# Altium footprint library 水下机器人电调控制板2020.PcbLib: 54 footprints (part 2 of 4)
Each footprint in its own frame and in the unit in brackets; x right, y up, seen from the top. Pads: shape width x height; smd on the part's side, far side on the other; paste and mask are expansions set on the pad; w line width, h text height; cw(c..) or ccw(c..) is an arc to the next point about the centre after c.
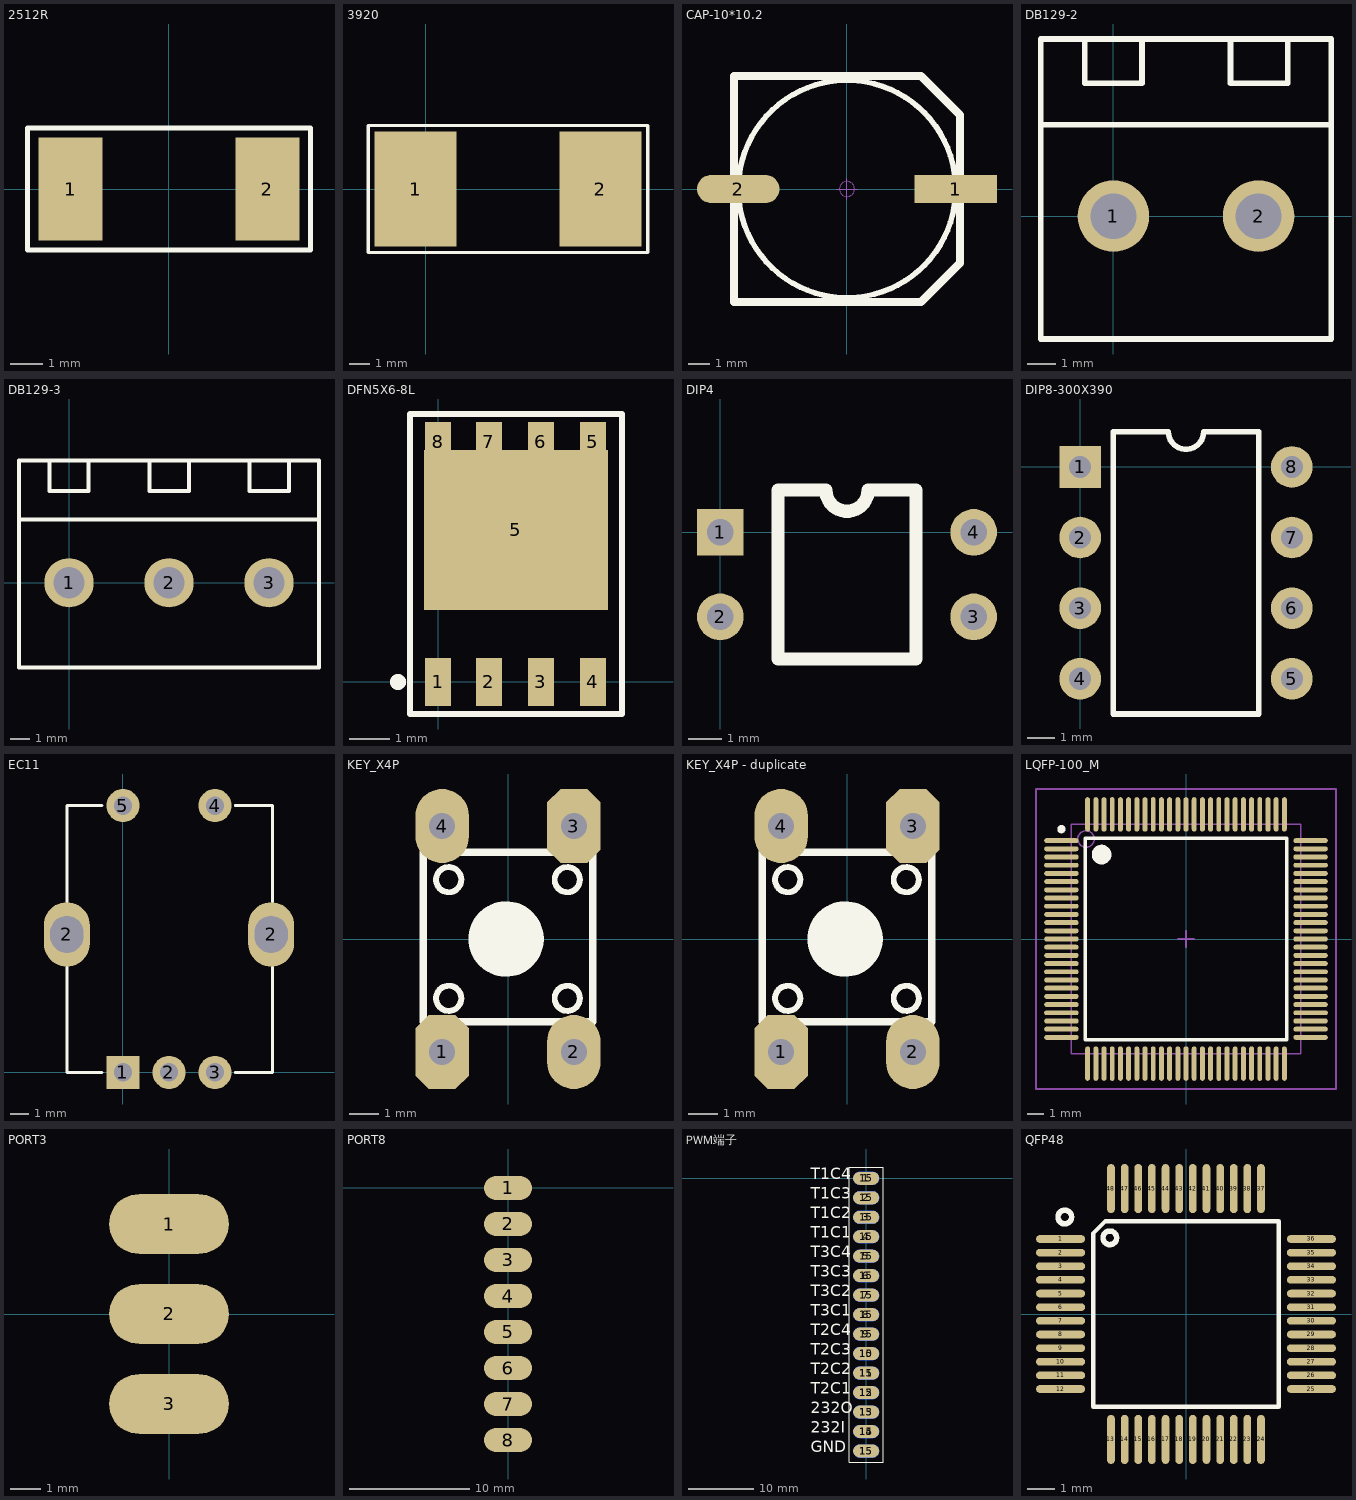
[diagram p1: the footprints below, top view; thin cyan lines are the x and y axes]

## 2512R [mm]
pads (2):
  rect 2x3.2 smd: 1(-3.06,0) 2(3.06,0)
Top Overlay:
  lines w0.15: -4.4,-1.9 -4.4,1.9 4.4,1.9 4.4,-1.9 -4.4,-1.9

## 3920 [mm]
pads (2):
  rect 4x5.6 smd mask+0.1: 1(-0.5,0) 2(8.5,0)
Top Overlay:
  lines w0.15: -2.8,-3.1 10.8,-3.1 10.8,3.1 -2.8,3.1 -2.8,-3.1

## CAP-10*10.2 [mm] "贴片电解电容，10*10.5"
pads (2):
  rect 3.8x1.3 smd: 1(5,0)
  oval 3.8x1.3 smd: 2(-5,0)
Top Overlay:
  circle w0.254: c0,0 r5
  lines w0.381: 5.191,-3.413 3.404,-5.2 -5.2,-5.2 -5.2,5.2 3.404,5.2 5.2,3.404 5.2,-3.404
Mechanical 15:
  circle w0.05: c0,0 r0.35
  lines w0.05: -0.5,0 0.5,0 ; 0,-0.5 0,0.5

## DB129-2 [mm]
pads (2):
  round 2.5 hole 1.6 mask+0.1: 1(0,0) 2(5.08,0)
Top Overlay:
  lines w0.2: -2.54,3.2 7.62,3.2 ; -1,6.15 -1,4.65 1,4.65 1,6.15 ; 4.1,6.15 4.1,4.65 6.1,4.65 6.1,6.15 ; -2.54,-4.3 7.62,-4.3 7.62,6.2 -2.54,6.2 -2.54,-4.3

## DB129-3 [mm]
pads (3):
  round 2.5 hole 1.6 mask+0.1: 1(0,0) 2(5.08,0) 3(10.16,0)
Top Overlay:
  lines w0.2: -2.54,3.2 12.7,3.2 ; -1,6.15 -1,4.65 1,4.65 1,6.15 ; 4.1,6.15 4.1,4.65 6.1,4.65 6.1,6.15 ; 9.18,6.15 9.18,4.65 11.18,4.65 11.18,6.15 ; -2.54,-4.3 12.7,-4.3 12.7,6.2 -2.54,6.2 -2.54,-4.3

## DFN5X6-8L [mm]
pads (9):
  rect 0.65x1.2 smd mask+0: 1(0,0) 2(1.27,0) 3(2.57,0) 4(3.87,0)
  rect 4.6x4 smd mask+0: 5(1.95,3.8)
  rect 0.65x1 smd mask+0: 5(3.87,6) 6(2.57,6) 7(1.27,6) 8(0,6)
Top Overlay:
  circle w0.2: c-1,0 r0.1
  lines w0.15: -0.7,-0.8 4.6,-0.8 4.6,6.7 -0.7,6.7 -0.7,-0.8

## DIP4 [mm]
pads (4):
  rect 1.4x1.4 hole 0.8: 1(0,0)
  round 1.4 hole 0.8: 2(0,-2.54) 3(7.62,-2.54) 4(7.62,0)
Top Overlay:
  lines w0.4: 1.735,-3.81 1.735,1.27 3.175,1.27 ccw(c3.81,1.27) 4.445,1.27 5.885,1.27 5.885,-3.81 1.735,-3.81

## DIP8-300X390 [mm]
pads (8):
  rect 1.5x1.5 hole 0.8: 1(0,0)
  round 1.5 hole 0.8: 2(0,-2.54) 3(0,-5.08) 4(0,-7.62) 5(7.62,-7.62) 6(7.62,-5.08) 7(7.62,-2.54) 8(7.62,0)
Top Overlay:
  lines w0.2: 1.185,-8.89 1.185,1.27 3.175,1.27 ccw(c3.81,1.27) 4.445,1.27 6.435,1.27 6.435,-8.89 1.185,-8.89

## EC11 [mm]
pads (7):
  rect 1.8x1.8 hole 1: 1(0,0)
  oval 2.5x3.5 hole 1.8 slot 2 at 90 deg: 2(-3.05,7.5) 2(8.05,7.5)
  round 1.8 hole 1: 2(2.5,0) 3(5,0) 4(5,14.5) 5(0,14.5)
Top Overlay:
  lines w0.15: -3.048,5.715 -3.048,0 -1.143,0 ; -3.048,9.271 -3.048,14.5 -1.143,14.5 ; 6.096,0 8.128,0 8.128,5.715 ; 6.096,14.5 8.128,14.5 8.128,9.271

## KEY_X4P [mm]
pads (4):
  oct 1.8x2.5 hole 0.87: 1(-2.222,-3.81) 3(2.222,3.81)
  oval 1.8x2.5 hole 0.87: 2(2.222,-3.81) 4(-2.222,3.81)
Top Overlay:
  circle w0.2: c2,2 r0.424
  circle w0.2: c2,-2 r0.424
  circle w0.2: c-2,-2 r0.424
  circle w0.2: c-2,2 r0.424
  circle w1.27: c-0.064,0 r0.635
  lines w0.254: -2.857,-2.794 2.857,-2.794 2.857,2.921 -2.857,2.921 -2.857,-2.794

## KEY_X4P - duplicate [mm]
pads (4):
  oct 1.8x2.5 hole 0.87: 1(-2.222,-3.81) 3(2.222,3.81)
  oval 1.8x2.5 hole 0.87: 2(2.222,-3.81) 4(-2.222,3.81)
Top Overlay:
  circle w1.27: c-0.064,0 r0.635
  circle w0.2: c-2,2 r0.424
  circle w0.2: c-2,-2 r0.424
  circle w0.2: c2,-2 r0.424
  circle w0.2: c2,2 r0.424
  lines w0.254: -2.857,-2.794 -2.857,2.921 2.857,2.921 2.857,-2.794 -2.857,-2.794

## LQFP-100_M [mm] "Thin QFP, 100"
height 1.6
pads (100):
  oval 2.1x0.3 smd: 1(-7.6,6) 2(-7.6,5.5) 3(-7.6,5) 4(-7.6,4.5) 5(-7.6,4) 6(-7.6,3.5) 7(-7.6,3) 8(-7.6,2.5) 9(-7.6,2) 10(-7.6,1.5) 11(-7.6,1) 12(-7.6,0.5) 13(-7.6,0) 14(-7.6,-0.5) 15(-7.6,-1) 16(-7.6,-1.5) 17(-7.6,-2) 18(-7.6,-2.5) 19(-7.6,-3) 20(-7.6,-3.5) 21(-7.6,-4) 22(-7.6,-4.5) 23(-7.6,-5) 24(-7.6,-5.5) 25(-7.6,-6) 51(7.6,-6) 52(7.6,-5.5) 53(7.6,-5) 54(7.6,-4.5) 55(7.6,-4) 56(7.6,-3.5) 57(7.6,-3) 58(7.6,-2.5) 59(7.6,-2) 60(7.6,-1.5) 61(7.6,-1) 62(7.6,-0.5) 63(7.6,0) 64(7.6,0.5) 65(7.6,1) 66(7.6,1.5) 67(7.6,2) 68(7.6,2.5) 69(7.6,3) 70(7.6,3.5) 71(7.6,4) 72(7.6,4.5) 73(7.6,5) 74(7.6,5.5) 75(7.6,6)
  oval 0.3x2.1 smd: 26(-6,-7.6) 27(-5.5,-7.6) 28(-5,-7.6) 29(-4.5,-7.6) 30(-4,-7.6) 31(-3.5,-7.6) 32(-3,-7.6) 33(-2.5,-7.6) 34(-2,-7.6) 35(-1.5,-7.6) 36(-1,-7.6) 37(-0.5,-7.6) 38(0,-7.6) 39(0.5,-7.6) 40(1,-7.6) 41(1.5,-7.6) 42(2,-7.6) 43(2.5,-7.6) 44(3,-7.6) 45(3.5,-7.6) 46(4,-7.6) 47(4.5,-7.6) 48(5,-7.6) 49(5.5,-7.6) 50(6,-7.6) 76(6,7.6) 77(5.5,7.6) 78(5,7.6) 79(4.5,7.6) 80(4,7.6) 81(3.5,7.6) 82(3,7.6) 83(2.5,7.6) 84(2,7.6) 85(1.5,7.6) 86(1,7.6) 87(0.5,7.6) 88(0,7.6) 89(-0.5,7.6) 90(-1,7.6) 91(-1.5,7.6) 92(-2,7.6) 93(-2.5,7.6) 94(-3,7.6) 95(-3.5,7.6) 96(-4,7.6) 97(-4.5,7.6) 98(-5,7.6) 99(-5.5,7.6) 100(-6,7.6)
Top Overlay:
  circle w0.6: c-5.15,5.15 r0.3
  circle w0.25: c-7.6,6.7 r0.125
  lines w0.2: -6.15,-6.15 6.15,-6.15 6.15,6.15 -6.15,6.15 -6.15,-6.15
Mechanical 13:
  circle w0.1: c-6.1,6.1 r0.5
  lines w0.1: -7,-7 7,-7 7,7 -7,7 -7,-7
Mechanical 15:
  lines w0.1: -0.5,0 0.5,0 ; 0,-0.5 0,0.5 ; -9.15,-9.15 9.15,-9.15 9.15,9.15 -9.15,9.15 -9.15,-9.15
3D body: height 0.8, standoff 0, extent -7,-7 7,7

## PORT3 [mm]
pads (3):
  oval 4x2 smd mask+0.1: 1(0,3) 2(0,0) 3(0,-3)

## PORT8 [mm]
pads (8):
  oval 4x2 smd mask+0.1: 1(0,0) 2(0,-3) 3(0,-6) 4(0,-9) 5(0,-12) 6(0,-15) 7(0,-18) 8(0,-21)

## PWM端子 [mm]
pads (30):
  oval 4x2 smd mask+0.1: 1(0,0) 2(0,-3) 3(0,-6) 4(0,-9) 5(0,-12) 6(0,-15) 7(0,-18) 8(0,-21) 9(0,-24) 10(0,-27) 11(0,-30) 12(0,-33) 13(0,-36) 14(0,-39) 15(0,-42)
  oval 4x2 smd far side mask+0.1: 15(0,-42) 15(0,-39) 15(0,-36) 15(0,-33) 15(0,-30) 15(0,-27) 15(0,-24) 15(0,-21) 15(0,-18) 15(0,-15) 15(0,-12) 15(0,-9) 15(0,-6) 15(0,-3) 15(0,0)
Top Overlay:
  lines w0.15: -2.6,-43.7 -2.6,1.7 2.6,1.7 2.6,-43.7 -2.6,-43.7
  text "232I" at -8.5,-39.8 h3
  text "232O" at -8.5,-36.8 h3
  text "T2C1" at -8.5,-33.8 h3
  text "T2C2" at -8.5,-30.8 h3
  text "T2C3" at -8.5,-27.8 h3
  text "T2C4" at -8.5,-24.8 h3
  text "T3C1" at -8.5,-21.8 h3
  text "T3C2" at -8.5,-18.8 h3
  text "T3C3" at -8.5,-15.8 h3
  text "T3C4" at -8.5,-12.8 h3
  text "T1C4" at -8.5,-0.8 h3
  text "T1C3" at -8.5,-3.8 h3
  text "T1C2" at -8.5,-6.8 h3
  text "T1C1" at -8.5,-9.8 h3
  text "GND" at -8.5,-42.8 h3

## QFP48 [mm]
pads (48):
  oval 1.8x0.28 smd: 1(-4.6,2.75) 2(-4.6,2.25) 3(-4.6,1.75) 4(-4.6,1.25) 5(-4.6,0.75) 6(-4.6,0.25) 7(-4.6,-0.25) 8(-4.6,-0.75) 9(-4.6,-1.25) 10(-4.6,-1.75) 11(-4.6,-2.25) 12(-4.6,-2.75) 25(4.6,-2.75) 26(4.6,-2.25) 27(4.6,-1.75) 28(4.6,-1.25) 29(4.6,-0.75) 30(4.6,-0.25) 31(4.6,0.25) 32(4.6,0.75) 33(4.6,1.25) 34(4.6,1.75) 35(4.6,2.25) 36(4.6,2.75)
  oval 0.28x1.8 smd: 13(-2.75,-4.6) 14(-2.25,-4.6) 15(-1.75,-4.6) 16(-1.25,-4.6) 17(-0.75,-4.6) 18(-0.25,-4.6) 19(0.25,-4.6) 20(0.75,-4.6) 21(1.25,-4.6) 22(1.75,-4.6) 23(2.25,-4.6) 24(2.75,-4.6) 37(2.75,4.6) 38(2.25,4.6) 39(1.75,4.6) 40(1.25,4.6) 41(0.75,4.6) 42(0.25,4.6) 43(-0.25,4.6) 44(-0.75,4.6) 45(-1.25,4.6) 46(-1.75,4.6) 47(-2.25,4.6) 48(-2.75,4.6)
Top Overlay:
  circle w0.2: c-2.794,2.794 r0.25
  circle w0.2: c-4.445,3.556 r0.25
  lines w0.15: -3.402,-3.402 3.402,-3.402 3.402,3.402 -2.54,3.402 -2.948,3.402 -3.402,2.948 -3.402,2.54 -3.402,-3.402